# EAGLE library part TPS54332* (library Volks73-TexasInstruments)
DC-DC Converter 3.5-A, 28-V, 1-MHz, Step-Down DC-DC Converter with Eco-Mode™ Documentation Datasheet <http://www.ti.com/lit/ds/symlink/tps54332.pdf> Description The TPS54531 device is a 28-V, 5-A non-synchronous buck converter that integrates a low RDS(on) high-side MOSFET. To increase efficiency at light loads, a pulse skipping Eco-mode feature is automatically activated. Furthermore, the 1-uA shutdown supply current allows the device to be used in battery powered applications. Current mode control with internal slope compensation simplifies the external compensation calculations and reduces component count while allowing the use of ceramic output capacitors. A resistor divider programs the hysteresis of the input under-voltage lockout. An overvoltage transient protection circuit limits voltage overshoots during startup and transient conditions. A cycle-by-cycle current-limit scheme, frequency fold back, and thermal shutdown protect the device and the load in the event of an overload condition. The TPS54531 device is available in 8-pin SO PowerPAD™ package that has been internally optimized to improve thermal performance. Features 3.5 to 28-V Input Voltage Range Adjustable Output Voltage Down to 0.8V Integrated 80-mΩ High-Side MOSFET Supports up to 3.5-A Continuous Output Current High Efficiency at Light Loads with a Pulse Skipping Eco-mode™ Fixed 1MHz Switching Frequency Typical 1uA Shutdown Quiescent Current Adjustable Slow Start Limits Inrush Currents Programmable UVLO Threshold Overvoltage Transient Protection Cycle-by-Cycle Current-Limit, Frequency Fold Back, and Thermal Shutdown Protection Available in Thermally Enhanced 8-Pin SOIC PowerPAD™ Package Supported by WEBENCH <http://www.ti.com/lsds/ti/analog/webench/overview.page>™ Tool (http://www.ti.com/lsds/ti/analog/webench/overview.page) Applications Consumer Applications such as Set-Top Boxes, CPE Equipment, LCB Displays, Peripherals, and Battery Chargers Industrial and Car Audio Power Supplies 5-V, 12-V and 24-V Distributed Power Systems
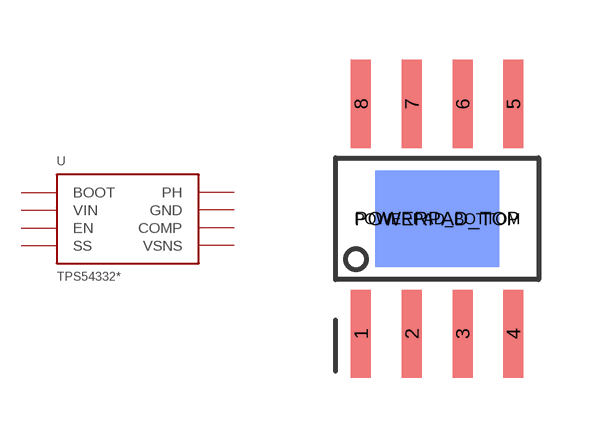
[diagram p1: symbol with the pads of SO-8_POWERPAD; footprint SO-8_POWERPAD]

Designator prefix U

## TPS54332 (CATEGORY: Integrated Circuits (ICs); CURRENT-OUTPUT: 3.5A; DESCRIPTION: IC REG BUCK ADJ 3.5A 8SOPWRPAD; DOCUMENTATION_LINK: <a href="http://www.ti.com/lit/ds/symlink/tps54332.pdf">Datasheet</a>; DOCUMENTATION_URL: http://www.ti.com/lit/ds/symlink/tps54332.pdf; FAMILY: PMIC - Voltage Regulators - DC DC Switching Regulators; FREQUENCY-SWITCHING: 1MHz; MANUFACTURER: Texas Instruments; MOUNTING_TYPE: Surface Mount; NUMBER_OF_OUTPUTS: 1; OPERATING_TEMPERATURE: -40°C ~ 150°C; OUTPUT_TYPE: Adjustable; PACKAGE-CASE: 8-SOIC (0.154", 3.90mm Width) Exposed Pad; PART_NUMBER: TPS54332DDA; SERIES: Eco-Mode; SUPPLIER_DEVICE_PACKAGE: 8-SO PowerPad; SUPPLIER_ITEM_LINK: <a href="http://www.digikey.com/product-detail/en/TPS54332DDA/296-24141-5-ND/2000741">Details</a>; SUPPLIER_ITEM_NUMBER: 296-24141-5-ND; SUPPLIER_ITEM_URL: http://www.digikey.com/product-detail/en/TPS54332DDA/296-24141-5-ND/2000741; SUPPLIER_LINK: <a href="http://www.digikey.com">Home Page</a>; SUPPLIER_NAME: Digi-Key; SUPPLIER_URL: http://www.digikey.com; SYNCHRONOUS_RECTIFIER: No; TYPE: Step-Down Buck; VOLTAGE-OUTPUT: 0.8 V ~ 25 V; VOLTAGE_INPUT: 3.5 V ~ 28 V)  [SO-8_POWERPAD]
1  BOOT
2  VIN  in
3  EN  in
4  SS
5  VSNS  in
6  COMP
7  GND  pwr
8  PH
POWERPAD_BOTTOM  GND  pwr
POWERPAD_TOP  GND  pwr

## Footprint SO-8_POWERPAD (pad centres in mm)
8-Pin Small Outline Integrated Circuit (SOIC) PowerPAD™ Plastic Small Outline Package contains a relatively large pad on the bottom that should be soldered directly to a large ground plane for thermal dissapiation. Up to six (6) thermal vias should be placed within the PowerPad™ connection.
smd 0.5 x 2.2: 1 -1.905,-2.875; 2 -0.635,-2.875; 3 0.635,-2.875; 4 1.905,-2.875; 5 1.905,2.875; 6 0.635,2.875; 7 -0.635,2.875; 8 -1.905,2.875
smd 3.1 x 2.4 bottom: POWERPAD_BOTTOM 0,0
smd 3.1 x 2.4: POWERPAD_TOP 0,0